# EAGLE library part LM4731 (library Audio-Power-amlifier V.2.0)
LM4731 Stereo 25W Audio Power Amplifier with Mute and Standby Modes
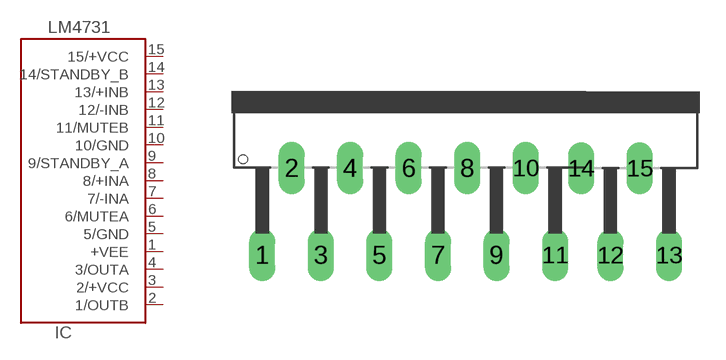
[diagram p246: symbol with the pads of TO220-15; footprint TO220-15]

Designator prefix IC

## LM4731  [TO220-15]
1  +VEE  pwr
2  1/OUTB  out
3  2/+VCC  pwr
4  3/OUTA  out
5  5/GND  pwr
6  6/MUTEA  in
7  7/-INA  in
8  8/+INA  in
9  9/STANDBY_A  in
10  10/GND  pwr
11  11/MUTEB  in
12  12/-INB  in
13  13/+INB  in
14  14/STANDBY_B  in
15  15/+VCC  pwr

## Footprint TO220-15 (pad centres in mm)
drill 1.016 long: 1 0.381,1.905; 2 2.083,6.96; 3 3.785,1.905; 4 5.486,6.96; 5 7.188,1.905; 6 8.89,6.96; 7 10.592,1.905; 8 12.294,6.96; 9 13.995,1.905; 10 15.697,6.96; 11 17.399,1.905; 12 20.615,1.895; 13 24.019,1.895; 14 18.914,6.95; 15 22.317,6.95